# Altium integrated library Linear Technology Power Management LDO Linear Regulators.IntLib: 2339 symbols (part 19 of 131)
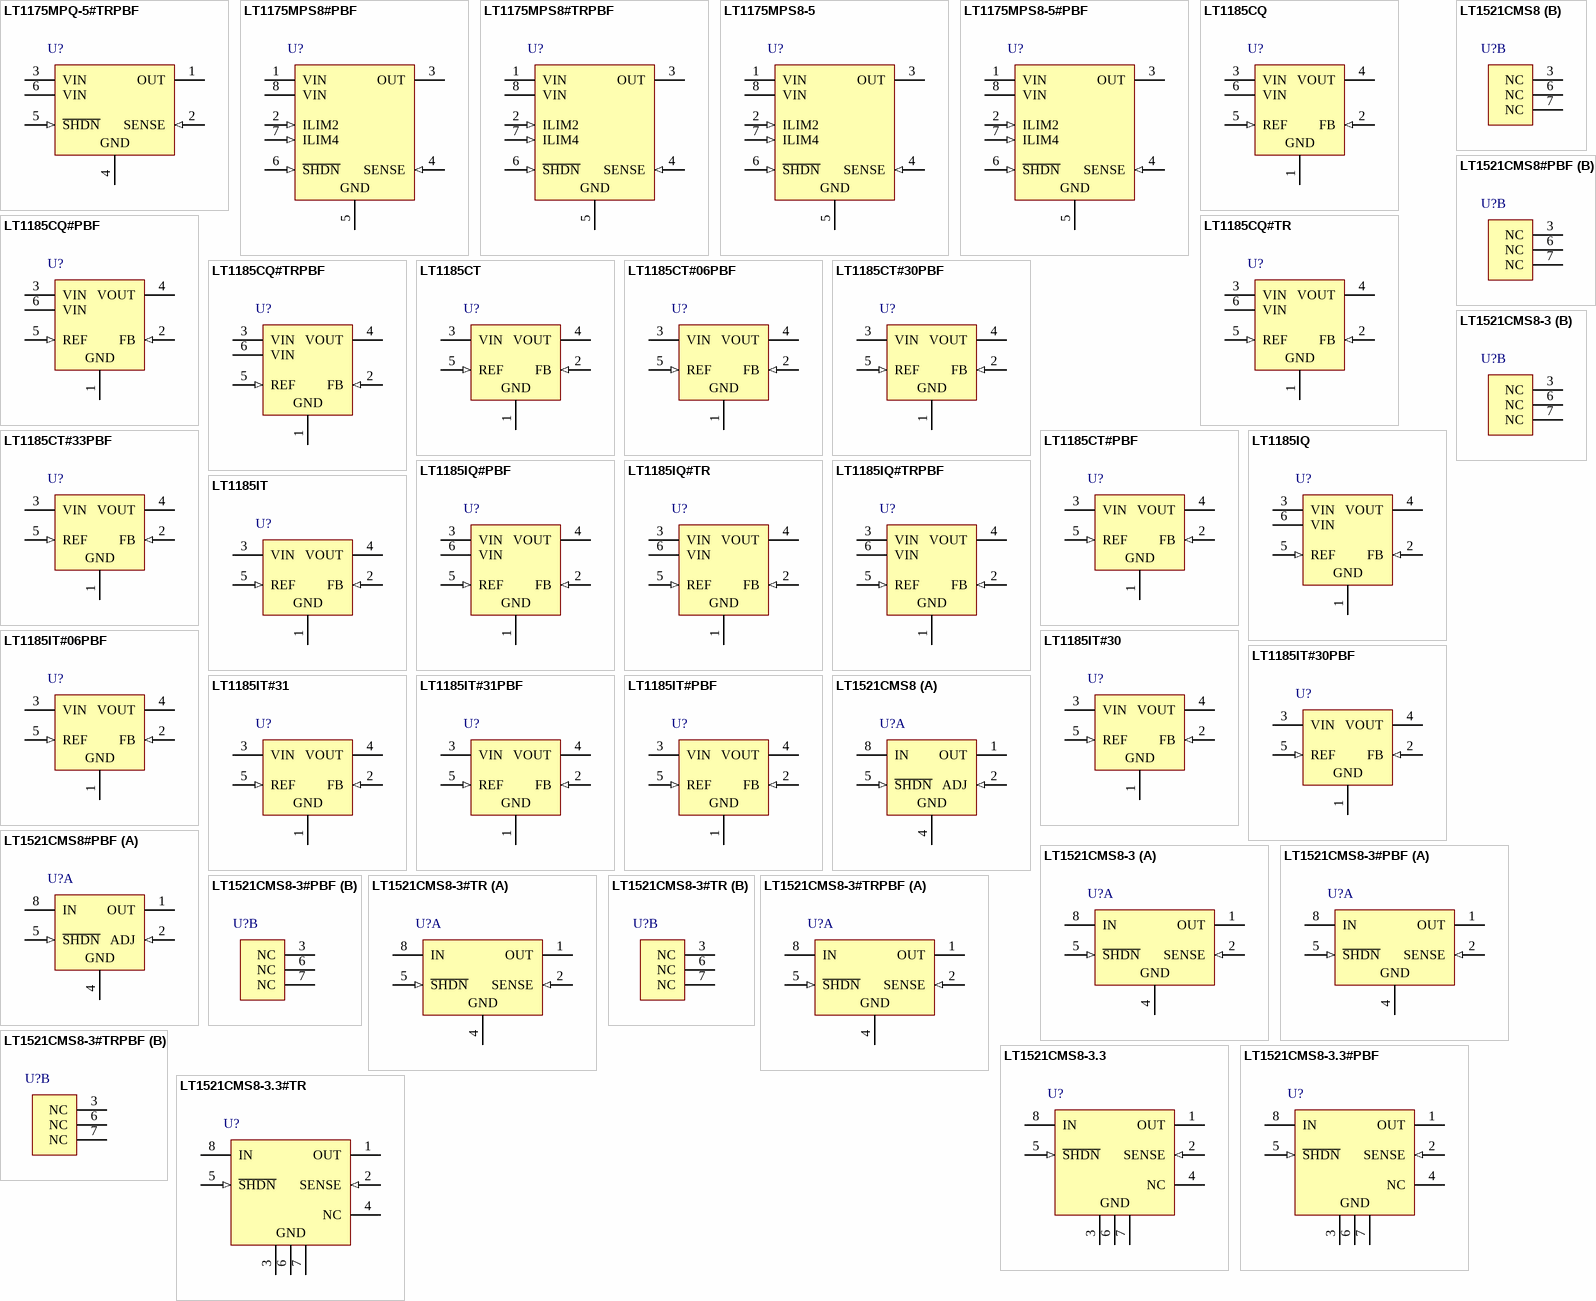
[diagram p87: symbols LT1175MPQ-5#TRPBF to LT1521CMS8-3.3#TR]

## LT1175MPS8-5#PBF
designator U?
500 mA Negative Low Dropout Micropower Regulator, -4.3 to -20 V Vin, -5 V Vout, 8-pin SOIC (S8-8), -55 to 125 degC, Pb-Free; Manufacturer: Linear Technology; PartNumber: LT1175MPS8-5#PBF; Discrete Pass Element: no; Dropout Voltage(V): 0.5; Iout(mA): 500; Isupply(mA): 0.045; Number of Outputs: 1; Output Voltage: -5 V; Shutdown Current(uA): 10; DatasheetVersion: Rev. F; PackageVersion: Rev. G, 03/2012; PackageReference: S8-8; PackageDescription: 8-Pin Plastic Small Outline (Narrow .150 Inch), Body 4.9 x 3.9 mm, Pitch 1.27 mm; Supplier 1: Digi-Key; Supplier Part Number 1: LT1175MPS8-5#PBF-ND; Supplier 2: Farnell; Supplier Part Number 2: 1847503; Supplier 3: Newark; Supplier Part Number 3: 84R5019; RoHS: TRUE; Vin Max(V): -4.3; Vin Min(V): -20; Mounting Technology: Surface Mount; ComponentLink1Description: Manufacturer URL; ComponentLink1URL: http://www.linear.com/; ComponentLink2Description: Datasheet; ComponentLink2URL: http://cds.linear.com/docs/en/datasheet/1175ff.pdf; ComponentLink3Description: Package Specification; ComponentLink3URL: http://cds.linear.com/docs/en/packaging/05081610_G_SO8.pdf
footprint LT-S8-8_N (SOIC, 8-Leads, Body 4.9x3.9mm, Pitch 1.27mm, IPC Medium Density)
footprint LT-S8-8_L (SOIC, 8-Leads, Body 4.9x3.9mm, Pitch 1.27mm, IPC High Density)
footprint LT-S8-8_M (SOIC, 8-Leads, Body 4.9x3.9mm, Pitch 1.27mm, IPC Low Density)
pins: 1 VIN (power) "Power is supplied to the device through this pin. A bypass  capacitor is required on this pin if the device is more than  six inches away from the main filter capacitor. In general, the impedance of a battery rises with (See Datasheet)", 2 ILIM2 (in) "The two current limit pins are emitter sections of the power transistor. When left open, they float several hundred millivolts  above the negative input voltage. When shorted to the  input voltage, they increase current limit (See Datasheet)", 3 OUT (power) "The OUTPUT pin  is the collector of the NPN power transistor. It can be forced to the input voltage, to ground or up to 2V positive with respect to ground without damage or latchup (see Output  Voltage Reversal in (See Datasheet)", 4 SENSE (in) "The SENSE pin is used in the adjustable version to allow custom selection of output voltage, with an external divider set to generate 3.8V at the SENSE pin. Input bias current is typically 75nA  flowing out of the pin. (See Datasheet)", 5 GND (power) "The GND pin has a quiescent current of 45uA at zero load current, increasing by approximately 10uA per mA of output current. At 500mA output current, GND pin current is about 5mA. Current ?ows into the GND pin.", 6 ~{SHDN} (in) "The S\H\D\N\ pin is  specially configured to allow it to be driven from either positive voltage logic or with negative only logic. Forcing the S\H\D\N\ pin 2V either above or below the GND pin will turn the regulator on. This (See Datasheet)", 7 ILIM4 (in) "The two current limit pins are emitter sections of the power transistor. When left open, they float several hundred millivolts  above the negative input voltage. When shorted to the  input voltage, they increase current limit (See Datasheet)", 8 VIN (power) "Power is supplied to the device through this pin. A bypass  capacitor is required on this pin if the device is more than  six inches away from the main filter capacitor. In general, the impedance of a battery rises with (See Datasheet)"

## LT1185CQ
designator U?
Low Dropout Regulator, -4.2 to -35 V Vin, Adjustable Vout, 5-pin DPAK (Q-5), 0 to 70 degC; Manufacturer: Linear Technology; PartNumber: LT1185CQ; Discrete Pass Element: no; Dropout Voltage(V): 0.67; Iout(mA): 3000; Isupply(mA): 2.5; Number of Outputs: 1; Output Voltage: -Adj; Vout Max(V): -2.4; Vout Min(V): -34; DatasheetVersion: Rev. F; PackageVersion: Rev. F, 09/2011; PackageReference: Q-5; PackageDescription: 5-Pin Plastic DD Pak, Body 10.2235 x 8.89 mm, Pitch 1.702 mm; Supplier 1: Digi-Key; Supplier Part Number 1: LT1185CQ-ND; Supplier 2: Newark; Supplier Part Number 2: 57M2579; RoHS: FALSE; Shutdown Current(uA): 1; Vin Max(V): -4.2; Vin Min(V): -35; Mounting Technology: Surface Mount; ComponentLink1Description: Manufacturer URL; ComponentLink1URL: http://www.linear.com/; ComponentLink2Description: Datasheet; ComponentLink2URL: http://cds.linear.com/docs/en/datasheet/1185ff.pdf; ComponentLink3Description: Package Specification; ComponentLink3URL: http://cds.linear.com/docs/en/packaging/Q%20DD5%2005-08-1461%20Rev%20F.pdf
footprint LT-Q-5_N (DPAK, 5-Leads, Body 10.22x8.89mm, Pitch 1.702mm, IPC Medium Density)
footprint LT-Q-5_L (DPAK, 5-Leads, Body 10.22x8.89mm, Pitch 1.702mm, IPC High Density)
footprint LT-Q-5_M (DPAK, 5-Leads, Body 10.22x8.89mm, Pitch 1.702mm, IPC Low Density)
pins: 1 GND (power), 2 FB (in), 3 VIN (power), 4 VOUT (power), 5 REF (in), 6 VIN (power)

## LT1185CQ#PBF
designator U?
Low Dropout Regulator, -4.2 to -35 V Vin, Adjustable Vout, 5-pin DPAK (Q-5), 0 to 70 degC, Pb-Free; Manufacturer: Linear Technology; PartNumber: LT1185CQ#PBF; Discrete Pass Element: no; Dropout Voltage(V): 0.67; Iout(mA): 3000; Isupply(mA): 2.5; Number of Outputs: 1; Output Voltage: -Adj; Vout Max(V): -2.4; Vout Min(V): -34; DatasheetVersion: Rev. F; PackageVersion: Rev. F, 09/2011; PackageReference: Q-5; PackageDescription: 5-Pin Plastic DD Pak, Body 10.2235 x 8.89 mm, Pitch 1.702 mm; Supplier 1: Digi-Key; Supplier Part Number 1: LT1185CQ#PBF-ND; Supplier 2: Farnell; Supplier Part Number 2: 2102589; Supplier 3: Farnell; Supplier Part Number 3: 1499450; Supplier 4: Newark; Supplier Part Number 4: 57M2580; RoHS: TRUE; Shutdown Current(uA): 1; Vin Max(V): -4.2; Vin Min(V): -35; Mounting Technology: Surface Mount; ComponentLink1Description: Manufacturer URL; ComponentLink1URL: http://www.linear.com/; ComponentLink2Description: Datasheet; ComponentLink2URL: http://cds.linear.com/docs/en/datasheet/1185ff.pdf; ComponentLink3Description: Package Specification; ComponentLink3URL: http://cds.linear.com/docs/en/packaging/Q%20DD5%2005-08-1461%20Rev%20F.pdf
footprint LT-Q-5_N (DPAK, 5-Leads, Body 10.22x8.89mm, Pitch 1.702mm, IPC Medium Density)
footprint LT-Q-5_L (DPAK, 5-Leads, Body 10.22x8.89mm, Pitch 1.702mm, IPC High Density)
footprint LT-Q-5_M (DPAK, 5-Leads, Body 10.22x8.89mm, Pitch 1.702mm, IPC Low Density)
pins: 1 GND (power), 2 FB (in), 3 VIN (power), 4 VOUT (power), 5 REF (in), 6 VIN (power)

## LT1185CQ#TR
designator U?
Low Dropout Regulator, -4.2 to -35 V Vin, Adjustable Vout, 5-pin DPAK (Q-5), 0 to 70 degC, Tape and Reel; Manufacturer: Linear Technology; PartNumber: LT1185CQ#TR; Discrete Pass Element: no; Dropout Voltage(V): 0.67; Iout(mA): 3000; Isupply(mA): 2.5; Number of Outputs: 1; Output Voltage: -Adj; Vout Max(V): -2.4; Vout Min(V): -34; DatasheetVersion: Rev. F; PackageVersion: Rev. F, 09/2011; PackageReference: Q-5; PackageDescription: 5-Pin Plastic DD Pak, Body 10.2235 x 8.89 mm, Pitch 1.702 mm; Supplier 1: Digi-Key; Supplier Part Number 1: LT1185CQ#TR-ND; Supplier 2: Newark; Supplier Part Number 2: 57M2581; Packing: Tape and Reel; RoHS: FALSE; Shutdown Current(uA): 1; Vin Max(V): -4.2; Vin Min(V): -35; Mounting Technology: Surface Mount; ComponentLink1Description: Manufacturer URL; ComponentLink1URL: http://www.linear.com/; ComponentLink2Description: Datasheet; ComponentLink2URL: http://cds.linear.com/docs/en/datasheet/1185ff.pdf; ComponentLink3Description: Package Specification; ComponentLink3URL: http://cds.linear.com/docs/en/packaging/Q%20DD5%2005-08-1461%20Rev%20F.pdf
footprint LT-Q-5_N (DPAK, 5-Leads, Body 10.22x8.89mm, Pitch 1.702mm, IPC Medium Density)
footprint LT-Q-5_L (DPAK, 5-Leads, Body 10.22x8.89mm, Pitch 1.702mm, IPC High Density)
footprint LT-Q-5_M (DPAK, 5-Leads, Body 10.22x8.89mm, Pitch 1.702mm, IPC Low Density)
pins: 1 GND (power), 2 FB (in), 3 VIN (power), 4 VOUT (power), 5 REF (in), 6 VIN (power)

## LT1185CQ#TRPBF
designator U?
Low Dropout Regulator, -4.2 to -35 V Vin, Adjustable Vout, 5-pin DPAK (Q-5), 0 to 70 degC, Pb-Free, Tape and Reel; Manufacturer: Linear Technology; PartNumber: LT1185CQ#TRPBF; Discrete Pass Element: no; Dropout Voltage(V): 0.67; Iout(mA): 3000; Isupply(mA): 2.5; Number of Outputs: 1; Output Voltage: -Adj; Vout Max(V): -2.4; Vout Min(V): -34; DatasheetVersion: Rev. F; PackageVersion: Rev. F, 09/2011; PackageReference: Q-5; PackageDescription: 5-Pin Plastic DD Pak, Body 10.2235 x 8.89 mm, Pitch 1.702 mm; Supplier 1: Digi-Key; Supplier Part Number 1: LT1185CQ#TRPBF-ND; Supplier 2: Newark; Supplier Part Number 2: 57M2582; Packing: Tape and Reel; RoHS: TRUE; Shutdown Current(uA): 1; Vin Max(V): -4.2; Vin Min(V): -35; Mounting Technology: Surface Mount; ComponentLink1Description: Manufacturer URL; ComponentLink1URL: http://www.linear.com/; ComponentLink2Description: Datasheet; ComponentLink2URL: http://cds.linear.com/docs/en/datasheet/1185ff.pdf; ComponentLink3Description: Package Specification; ComponentLink3URL: http://cds.linear.com/docs/en/packaging/Q%20DD5%2005-08-1461%20Rev%20F.pdf
footprint LT-Q-5_N (DPAK, 5-Leads, Body 10.22x8.89mm, Pitch 1.702mm, IPC Medium Density)
footprint LT-Q-5_L (DPAK, 5-Leads, Body 10.22x8.89mm, Pitch 1.702mm, IPC High Density)
footprint LT-Q-5_M (DPAK, 5-Leads, Body 10.22x8.89mm, Pitch 1.702mm, IPC Low Density)
pins: 1 GND (power), 2 FB (in), 3 VIN (power), 4 VOUT (power), 5 REF (in), 6 VIN (power)

## LT1185CT
designator U?
Low Dropout Regulator, -4.2 to -35 V Vin, Adjustable Vout, 5-pin FM (T-5), 0 to 70 degC; Manufacturer: Linear Technology; PartNumber: LT1185CT; Discrete Pass Element: no; Dropout Voltage(V): 0.67; Iout(mA): 3000; Isupply(mA): 2.5; Number of Outputs: 1; Output Voltage: -Adj; Vout Max(V): -2.4; Vout Min(V): -34; DatasheetVersion: Rev. F; PackageVersion: Aug-10; PackageReference: T-5; PackageDescription: 5-Pin Plastic TO-220 (Standard), Body 10.224 x 8.89 mm, Pitch 1.7 mm; Supplier 1: Digi-Key; Supplier Part Number 1: LT1185CT-ND; Supplier 2: Newark; Supplier Part Number 2: 57M2583; RoHS: FALSE; Shutdown Current(uA): 1; Vin Max(V): -4.2; Vin Min(V): -35; Mounting Technology: Through Hole; ComponentLink1Description: Manufacturer URL; ComponentLink1URL: http://www.linear.com/; ComponentLink2Description: Datasheet; ComponentLink2URL: http://cds.linear.com/docs/en/datasheet/1185ff.pdf; ComponentLink3Description: Package Specification; ComponentLink3URL: http://cds.linear.com/docs/en/packaging/TO-220_5_05-08-1421.pdf
footprint LT-T-5-S (FM, 5-Leads, Body 10.2235x4.3815mm, Pitch 1.7mm)
pins: 1 GND (power), 2 FB (in), 3 VIN (power), 4 VOUT (power), 5 REF (in)

## LT1185CT#06PBF
designator U?
Low Dropout Regulator, -4.2 to -35 V Vin, Adjustable Vout, 5-pin FM (T-5), 0 to 70 degC, Pb-Free; Manufacturer: Linear Technology; PartNumber: LT1185CT#06PBF; Discrete Pass Element: no; Dropout Voltage(V): 0.67; Iout(mA): 3000; Isupply(mA): 2.5; Number of Outputs: 1; Output Voltage: -Adj; Vout Max(V): -2.4; Vout Min(V): -34; DatasheetVersion: Rev. F; PackageVersion: Aug-10; PackageReference: T-5; PackageDescription: 5-Pin Plastic TO-220 (Standard), Body 10.224 x 8.89 mm, Pitch 1.7 mm; Supplier 1: Digi-Key; Supplier Part Number 1: LT1185CT#06PBF-ND; Supplier 2: Newark; Supplier Part Number 2: 27W9517; RoHS: TRUE; Shutdown Current(uA): 1; Vin Max(V): -4.2; Vin Min(V): -35; Mounting Technology: Through Hole; ComponentLink1Description: Manufacturer URL; ComponentLink1URL: http://www.linear.com/; ComponentLink2Description: Datasheet; ComponentLink2URL: http://cds.linear.com/docs/en/datasheet/1185ff.pdf; ComponentLink3Description: Package Specification; ComponentLink3URL: http://cds.linear.com/docs/en/packaging/TO-220_5_05-08-1421.pdf
footprint LT-T-5-S (FM, 5-Leads, Body 10.2235x4.3815mm, Pitch 1.7mm)
pins: 1 GND (power), 2 FB (in), 3 VIN (power), 4 VOUT (power), 5 REF (in)

## LT1185CT#30PBF
designator U?
Low Dropout Regulator, -4.2 to -35 V Vin, Adjustable Vout, 5-pin FM (T-5), 0 to 70 degC, Pb-Free; Manufacturer: Linear Technology; PartNumber: LT1185CT#30PBF; Discrete Pass Element: no; Dropout Voltage(V): 0.67; Iout(mA): 3000; Isupply(mA): 2.5; Number of Outputs: 1; Output Voltage: -Adj; Vout Max(V): -2.4; Vout Min(V): -34; DatasheetVersion: Rev. F; PackageVersion: Aug-10; PackageReference: T-5; PackageDescription: 5-Pin Plastic TO-220 (Standard), Body 10.224 x 8.89 mm, Pitch 1.7 mm; Supplier 1: Digi-Key; Supplier Part Number 1: LT1185CT#30PBF-ND; Supplier 2: Newark; Supplier Part Number 2: 27W9518; RoHS: TRUE; Shutdown Current(uA): 1; Vin Max(V): -4.2; Vin Min(V): -35; Mounting Technology: Through Hole; ComponentLink1Description: Manufacturer URL; ComponentLink1URL: http://www.linear.com/; ComponentLink2Description: Datasheet; ComponentLink2URL: http://cds.linear.com/docs/en/datasheet/1185ff.pdf; ComponentLink3Description: Package Specification; ComponentLink3URL: http://cds.linear.com/docs/en/packaging/TO-220_5_05-08-1421.pdf
footprint LT-T-5-S (FM, 5-Leads, Body 10.2235x4.3815mm, Pitch 1.7mm)
pins: 1 GND (power), 2 FB (in), 3 VIN (power), 4 VOUT (power), 5 REF (in)

## LT1185CT#33PBF
designator U?
Low Dropout Regulator, -4.2 to -35 V Vin, Adjustable Vout, 5-pin FM (T-5), 0 to 70 degC, Pb-Free; Manufacturer: Linear Technology; PartNumber: LT1185CT#33PBF; Discrete Pass Element: no; Dropout Voltage(V): 0.67; Iout(mA): 3000; Isupply(mA): 2.5; Number of Outputs: 1; Output Voltage: -Adj; Vout Max(V): -2.4; Vout Min(V): -34; DatasheetVersion: Rev. F; PackageVersion: Aug-10; PackageReference: T-5; PackageDescription: 5-Pin Plastic TO-220 (Standard), Body 10.224 x 8.89 mm, Pitch 1.7 mm; Supplier 1: Digi-Key; Supplier Part Number 1: LT1185CT#33PBF-ND; Supplier 2: Newark; Supplier Part Number 2: 87T1010; RoHS: TRUE; Shutdown Current(uA): 1; Vin Max(V): -4.2; Vin Min(V): -35; Mounting Technology: Through Hole; ComponentLink1Description: Manufacturer URL; ComponentLink1URL: http://www.linear.com/; ComponentLink2Description: Datasheet; ComponentLink2URL: http://cds.linear.com/docs/en/datasheet/1185ff.pdf; ComponentLink3Description: Package Specification; ComponentLink3URL: http://cds.linear.com/docs/en/packaging/TO-220_5_05-08-1421.pdf
footprint LT-T-5-S (FM, 5-Leads, Body 10.2235x4.3815mm, Pitch 1.7mm)
pins: 1 GND (power), 2 FB (in), 3 VIN (power), 4 VOUT (power), 5 REF (in)

## LT1185CT#PBF
designator U?
Low Dropout Regulator, -4.2 to -35 V Vin, Adjustable Vout, 5-pin FM (T-5), 0 to 70 degC, Pb-Free; Manufacturer: Linear Technology; PartNumber: LT1185CT#PBF; Discrete Pass Element: no; Dropout Voltage(V): 0.67; Iout(mA): 3000; Isupply(mA): 2.5; Number of Outputs: 1; Output Voltage: -Adj; Vout Max(V): -2.4; Vout Min(V): -34; DatasheetVersion: Rev. F; PackageVersion: Aug-10; PackageReference: T-5; PackageDescription: 5-Pin Plastic TO-220 (Standard), Body 10.224 x 8.89 mm, Pitch 1.7 mm; Supplier 1: Digi-Key; Supplier Part Number 1: LT1185CT#PBF-ND; Supplier 2: Farnell; Supplier Part Number 2: 9560289; Supplier 3: Newark; Supplier Part Number 3: 57M2584; RoHS: TRUE; Shutdown Current(uA): 1; Vin Max(V): -4.2; Vin Min(V): -35; Mounting Technology: Through Hole; ComponentLink1Description: Manufacturer URL; ComponentLink1URL: http://www.linear.com/; ComponentLink2Description: Datasheet; ComponentLink2URL: http://cds.linear.com/docs/en/datasheet/1185ff.pdf; ComponentLink3Description: Package Specification; ComponentLink3URL: http://cds.linear.com/docs/en/packaging/TO-220_5_05-08-1421.pdf
footprint LT-T-5-S (FM, 5-Leads, Body 10.2235x4.3815mm, Pitch 1.7mm)
pins: 1 GND (power), 2 FB (in), 3 VIN (power), 4 VOUT (power), 5 REF (in)

## LT1185IQ
designator U?
Low Dropout Regulator, -4.2 to -35 V Vin, Adjustable Vout, 5-pin DPAK (Q-5), -40 to 85 degC; Manufacturer: Linear Technology; PartNumber: LT1185IQ; Discrete Pass Element: no; Dropout Voltage(V): 0.67; Iout(mA): 3000; Isupply(mA): 2.5; Number of Outputs: 1; Output Voltage: -Adj; Vout Max(V): -2.4; Vout Min(V): -34; DatasheetVersion: Rev. F; PackageVersion: Rev. F, 09/2011; PackageReference: Q-5; PackageDescription: 5-Pin Plastic DD Pak, Body 10.2235 x 8.89 mm, Pitch 1.702 mm; Supplier 1: Newark; Supplier Part Number 1: 57M2585; RoHS: FALSE; Shutdown Current(uA): 1; Vin Max(V): -4.2; Vin Min(V): -35; Mounting Technology: Surface Mount; ComponentLink1Description: Manufacturer URL; ComponentLink1URL: http://www.linear.com/; ComponentLink2Description: Datasheet; ComponentLink2URL: http://cds.linear.com/docs/en/datasheet/1185ff.pdf; ComponentLink3Description: Package Specification; ComponentLink3URL: http://cds.linear.com/docs/en/packaging/Q%20DD5%2005-08-1461%20Rev%20F.pdf
footprint LT-Q-5_N (DPAK, 5-Leads, Body 10.22x8.89mm, Pitch 1.702mm, IPC Medium Density)
footprint LT-Q-5_L (DPAK, 5-Leads, Body 10.22x8.89mm, Pitch 1.702mm, IPC High Density)
footprint LT-Q-5_M (DPAK, 5-Leads, Body 10.22x8.89mm, Pitch 1.702mm, IPC Low Density)
pins: 1 GND (power), 2 FB (in), 3 VIN (power), 4 VOUT (power), 5 REF (in), 6 VIN (power)

## LT1185IQ#PBF
designator U?
Low Dropout Regulator, -4.2 to -35 V Vin, Adjustable Vout, 5-pin DPAK (Q-5), -40 to 85 degC, Pb-Free; Manufacturer: Linear Technology; PartNumber: LT1185IQ#PBF; Discrete Pass Element: no; Dropout Voltage(V): 0.67; Iout(mA): 3000; Isupply(mA): 2.5; Number of Outputs: 1; Output Voltage: -Adj; Vout Max(V): -2.4; Vout Min(V): -34; DatasheetVersion: Rev. F; PackageVersion: Rev. F, 09/2011; PackageReference: Q-5; PackageDescription: 5-Pin Plastic DD Pak, Body 10.2235 x 8.89 mm, Pitch 1.702 mm; Supplier 1: Digi-Key; Supplier Part Number 1: LT1185IQ#PBF-ND; Supplier 2: Farnell; Supplier Part Number 2: 2238174; Supplier 3: Newark; Supplier Part Number 3: 51P4620; RoHS: TRUE; Shutdown Current(uA): 1; Vin Max(V): -4.2; Vin Min(V): -35; Mounting Technology: Surface Mount; ComponentLink1Description: Manufacturer URL; ComponentLink1URL: http://www.linear.com/; ComponentLink2Description: Datasheet; ComponentLink2URL: http://cds.linear.com/docs/en/datasheet/1185ff.pdf; ComponentLink3Description: Package Specification; ComponentLink3URL: http://cds.linear.com/docs/en/packaging/Q%20DD5%2005-08-1461%20Rev%20F.pdf
footprint LT-Q-5_N (DPAK, 5-Leads, Body 10.22x8.89mm, Pitch 1.702mm, IPC Medium Density)
footprint LT-Q-5_L (DPAK, 5-Leads, Body 10.22x8.89mm, Pitch 1.702mm, IPC High Density)
footprint LT-Q-5_M (DPAK, 5-Leads, Body 10.22x8.89mm, Pitch 1.702mm, IPC Low Density)
pins: 1 GND (power), 2 FB (in), 3 VIN (power), 4 VOUT (power), 5 REF (in), 6 VIN (power)

## LT1185IQ#TR
designator U?
Low Dropout Regulator, -4.2 to -35 V Vin, Adjustable Vout, 5-pin DPAK (Q-5), -40 to 85 degC, Tape and Reel; Manufacturer: Linear Technology; PartNumber: LT1185IQ#TR; Discrete Pass Element: no; Dropout Voltage(V): 0.67; Iout(mA): 3000; Isupply(mA): 2.5; Number of Outputs: 1; Output Voltage: -Adj; Vout Max(V): -2.4; Vout Min(V): -34; DatasheetVersion: Rev. F; PackageVersion: Rev. F, 09/2011; PackageReference: Q-5; PackageDescription: 5-Pin Plastic DD Pak, Body 10.2235 x 8.89 mm, Pitch 1.702 mm; Packing: Tape and Reel; RoHS: FALSE; Shutdown Current(uA): 1; Vin Max(V): -4.2; Vin Min(V): -35; Mounting Technology: Surface Mount; ComponentLink1Description: Manufacturer URL; ComponentLink1URL: http://www.linear.com/; ComponentLink2Description: Datasheet; ComponentLink2URL: http://cds.linear.com/docs/en/datasheet/1185ff.pdf; ComponentLink3Description: Package Specification; ComponentLink3URL: http://cds.linear.com/docs/en/packaging/Q%20DD5%2005-08-1461%20Rev%20F.pdf
footprint LT-Q-5_N (DPAK, 5-Leads, Body 10.22x8.89mm, Pitch 1.702mm, IPC Medium Density)
footprint LT-Q-5_L (DPAK, 5-Leads, Body 10.22x8.89mm, Pitch 1.702mm, IPC High Density)
footprint LT-Q-5_M (DPAK, 5-Leads, Body 10.22x8.89mm, Pitch 1.702mm, IPC Low Density)
pins: 1 GND (power), 2 FB (in), 3 VIN (power), 4 VOUT (power), 5 REF (in), 6 VIN (power)

## LT1185IQ#TRPBF
designator U?
Low Dropout Regulator, -4.2 to -35 V Vin, Adjustable Vout, 5-pin DPAK (Q-5), -40 to 85 degC, Pb-Free, Tape and Reel; Manufacturer: Linear Technology; PartNumber: LT1185IQ#TRPBF; Discrete Pass Element: no; Dropout Voltage(V): 0.67; Iout(mA): 3000; Isupply(mA): 2.5; Number of Outputs: 1; Output Voltage: -Adj; Vout Max(V): -2.4; Vout Min(V): -34; DatasheetVersion: Rev. F; PackageVersion: Rev. F, 09/2011; PackageReference: Q-5; PackageDescription: 5-Pin Plastic DD Pak, Body 10.2235 x 8.89 mm, Pitch 1.702 mm; Supplier 1: Digi-Key; Supplier Part Number 1: LT1185IQ#TRPBF-ND; Supplier 2: Newark; Supplier Part Number 2: 51P4621; Packing: Tape and Reel; RoHS: TRUE; Shutdown Current(uA): 1; Vin Max(V): -4.2; Vin Min(V): -35; Mounting Technology: Surface Mount; ComponentLink1Description: Manufacturer URL; ComponentLink1URL: http://www.linear.com/; ComponentLink2Description: Datasheet; ComponentLink2URL: http://cds.linear.com/docs/en/datasheet/1185ff.pdf; ComponentLink3Description: Package Specification; ComponentLink3URL: http://cds.linear.com/docs/en/packaging/Q%20DD5%2005-08-1461%20Rev%20F.pdf
footprint LT-Q-5_N (DPAK, 5-Leads, Body 10.22x8.89mm, Pitch 1.702mm, IPC Medium Density)
footprint LT-Q-5_L (DPAK, 5-Leads, Body 10.22x8.89mm, Pitch 1.702mm, IPC High Density)
footprint LT-Q-5_M (DPAK, 5-Leads, Body 10.22x8.89mm, Pitch 1.702mm, IPC Low Density)
pins: 1 GND (power), 2 FB (in), 3 VIN (power), 4 VOUT (power), 5 REF (in), 6 VIN (power)

## LT1185IT
designator U?
Low Dropout Regulator, -4.2 to -35 V Vin, Adjustable Vout, 5-pin FM (T-5), -40 to 85 degC; Manufacturer: Linear Technology; PartNumber: LT1185IT; Discrete Pass Element: no; Dropout Voltage(V): 0.67; Iout(mA): 3000; Isupply(mA): 2.5; Number of Outputs: 1; Output Voltage: -Adj; Vout Max(V): -2.4; Vout Min(V): -34; DatasheetVersion: Rev. F; PackageVersion: Aug-10; PackageReference: T-5; PackageDescription: 5-Pin Plastic TO-220 (Standard), Body 10.224 x 8.89 mm, Pitch 1.7 mm; Supplier 1: Digi-Key; Supplier Part Number 1: LT1185IT-ND; Supplier 2: Newark; Supplier Part Number 2: 57M2587; RoHS: FALSE; Shutdown Current(uA): 1; Vin Max(V): -4.2; Vin Min(V): -35; Mounting Technology: Through Hole; ComponentLink1Description: Manufacturer URL; ComponentLink1URL: http://www.linear.com/; ComponentLink2Description: Datasheet; ComponentLink2URL: http://cds.linear.com/docs/en/datasheet/1185ff.pdf; ComponentLink3Description: Package Specification; ComponentLink3URL: http://cds.linear.com/docs/en/packaging/TO-220_5_05-08-1421.pdf
footprint LT-T-5-S (FM, 5-Leads, Body 10.2235x4.3815mm, Pitch 1.7mm)
pins: 1 GND (power), 2 FB (in), 3 VIN (power), 4 VOUT (power), 5 REF (in)

## LT1185IT#06PBF
designator U?
Low Dropout Regulator, -4.2 to -35 V Vin, Adjustable Vout, 5-pin FM (T-5), -40 to 85 degC, Pb-Free; Manufacturer: Linear Technology; PartNumber: LT1185IT#06PBF; Discrete Pass Element: no; Dropout Voltage(V): 0.67; Iout(mA): 3000; Isupply(mA): 2.5; Number of Outputs: 1; Output Voltage: -Adj; Vout Max(V): -2.4; Vout Min(V): -34; DatasheetVersion: Rev. F; PackageVersion: Aug-10; PackageReference: T-5; PackageDescription: 5-Pin Plastic TO-220 (Standard), Body 10.224 x 8.89 mm, Pitch 1.7 mm; Supplier 1: Digi-Key; Supplier Part Number 1: LT1185IT#06PBF-ND; Supplier 2: Farnell; Supplier Part Number 2: 2238175; Supplier 3: Newark; Supplier Part Number 3: 51P4622; RoHS: TRUE; Shutdown Current(uA): 1; Vin Max(V): -4.2; Vin Min(V): -35; Mounting Technology: Through Hole; ComponentLink1Description: Manufacturer URL; ComponentLink1URL: http://www.linear.com/; ComponentLink2Description: Datasheet; ComponentLink2URL: http://cds.linear.com/docs/en/datasheet/1185ff.pdf; ComponentLink3Description: Package Specification; ComponentLink3URL: http://cds.linear.com/docs/en/packaging/TO-220_5_05-08-1421.pdf
footprint LT-T-5-S (FM, 5-Leads, Body 10.2235x4.3815mm, Pitch 1.7mm)
pins: 1 GND (power), 2 FB (in), 3 VIN (power), 4 VOUT (power), 5 REF (in)

## LT1185IT#30
designator U?
Low Dropout Regulator, -4.2 to -35 V Vin, Adjustable Vout, 5-pin FM (T-5), -40 to 85 degC; Manufacturer: Linear Technology; PartNumber: LT1185IT#30; Discrete Pass Element: no; Dropout Voltage(V): 0.67; Iout(mA): 3000; Isupply(mA): 2.5; Number of Outputs: 1; Output Voltage: -Adj; Vout Max(V): -2.4; Vout Min(V): -34; DatasheetVersion: Rev. F; PackageVersion: Aug-10; PackageReference: T-5; PackageDescription: 5-Pin Plastic TO-220 (Standard), Body 10.224 x 8.89 mm, Pitch 1.7 mm; RoHS: FALSE; Shutdown Current(uA): 1; Vin Max(V): -4.2; Vin Min(V): -35; Mounting Technology: Through Hole; ComponentLink1Description: Manufacturer URL; ComponentLink1URL: http://www.linear.com/; ComponentLink2Description: Datasheet; ComponentLink2URL: http://cds.linear.com/docs/en/datasheet/1185ff.pdf; ComponentLink3Description: Package Specification; ComponentLink3URL: http://cds.linear.com/docs/en/packaging/TO-220_5_05-08-1421.pdf
footprint LT-T-5-S (FM, 5-Leads, Body 10.2235x4.3815mm, Pitch 1.7mm)
pins: 1 GND (power), 2 FB (in), 3 VIN (power), 4 VOUT (power), 5 REF (in)

## LT1185IT#30PBF
designator U?
Low Dropout Regulator, -4.2 to -35 V Vin, Adjustable Vout, 5-pin FM (T-5), -40 to 85 degC, Pb-Free; Manufacturer: Linear Technology; PartNumber: LT1185IT#30PBF; Discrete Pass Element: no; Dropout Voltage(V): 0.67; Iout(mA): 3000; Isupply(mA): 2.5; Number of Outputs: 1; Output Voltage: -Adj; Vout Max(V): -2.4; Vout Min(V): -34; DatasheetVersion: Rev. F; PackageVersion: Aug-10; PackageReference: T-5; PackageDescription: 5-Pin Plastic TO-220 (Standard), Body 10.224 x 8.89 mm, Pitch 1.7 mm; Supplier 1: Digi-Key; Supplier Part Number 1: LT1185IT#30PBF-ND; RoHS: TRUE; Shutdown Current(uA): 1; Vin Max(V): -4.2; Vin Min(V): -35; Mounting Technology: Through Hole; ComponentLink1Description: Manufacturer URL; ComponentLink1URL: http://www.linear.com/; ComponentLink2Description: Datasheet; ComponentLink2URL: http://cds.linear.com/docs/en/datasheet/1185ff.pdf; ComponentLink3Description: Package Specification; ComponentLink3URL: http://cds.linear.com/docs/en/packaging/TO-220_5_05-08-1421.pdf
footprint LT-T-5-S (FM, 5-Leads, Body 10.2235x4.3815mm, Pitch 1.7mm)
pins: 1 GND (power), 2 FB (in), 3 VIN (power), 4 VOUT (power), 5 REF (in)

## LT1185IT#31
designator U?
Low Dropout Regulator, -4.2 to -35 V Vin, Adjustable Vout, 5-pin FM (T-5), -40 to 85 degC; Manufacturer: Linear Technology; PartNumber: LT1185IT#31; Discrete Pass Element: no; Dropout Voltage(V): 0.67; Iout(mA): 3000; Isupply(mA): 2.5; Number of Outputs: 1; Output Voltage: -Adj; Vout Max(V): -2.4; Vout Min(V): -34; DatasheetVersion: Rev. F; PackageVersion: Aug-10; PackageReference: T-5; PackageDescription: 5-Pin Plastic TO-220 (Standard), Body 10.224 x 8.89 mm, Pitch 1.7 mm; RoHS: FALSE; Shutdown Current(uA): 1; Vin Max(V): -4.2; Vin Min(V): -35; Mounting Technology: Through Hole; ComponentLink1Description: Manufacturer URL; ComponentLink1URL: http://www.linear.com/; ComponentLink2Description: Datasheet; ComponentLink2URL: http://cds.linear.com/docs/en/datasheet/1185ff.pdf; ComponentLink3Description: Package Specification; ComponentLink3URL: http://cds.linear.com/docs/en/packaging/TO-220_5_05-08-1421.pdf
footprint LT-T-5-S (FM, 5-Leads, Body 10.2235x4.3815mm, Pitch 1.7mm)
pins: 1 GND (power), 2 FB (in), 3 VIN (power), 4 VOUT (power), 5 REF (in)

## LT1185IT#31PBF
designator U?
Low Dropout Regulator, -4.2 to -35 V Vin, Adjustable Vout, 5-pin FM (T-5), -40 to 85 degC, Pb-Free; Manufacturer: Linear Technology; PartNumber: LT1185IT#31PBF; Discrete Pass Element: no; Dropout Voltage(V): 0.67; Iout(mA): 3000; Isupply(mA): 2.5; Number of Outputs: 1; Output Voltage: -Adj; Vout Max(V): -2.4; Vout Min(V): -34; DatasheetVersion: Rev. F; PackageVersion: Aug-10; PackageReference: T-5; PackageDescription: 5-Pin Plastic TO-220 (Standard), Body 10.224 x 8.89 mm, Pitch 1.7 mm; Supplier 1: Digi-Key; Supplier Part Number 1: LT1185IT#31PBF-ND; RoHS: TRUE; Shutdown Current(uA): 1; Vin Max(V): -4.2; Vin Min(V): -35; Mounting Technology: Through Hole; ComponentLink1Description: Manufacturer URL; ComponentLink1URL: http://www.linear.com/; ComponentLink2Description: Datasheet; ComponentLink2URL: http://cds.linear.com/docs/en/datasheet/1185ff.pdf; ComponentLink3Description: Package Specification; ComponentLink3URL: http://cds.linear.com/docs/en/packaging/TO-220_5_05-08-1421.pdf
footprint LT-T-5-S (FM, 5-Leads, Body 10.2235x4.3815mm, Pitch 1.7mm)
pins: 1 GND (power), 2 FB (in), 3 VIN (power), 4 VOUT (power), 5 REF (in)

## LT1185IT#PBF
designator U?
Low Dropout Regulator, -4.2 to -35 V Vin, Adjustable Vout, 5-pin FM (T-5), -40 to 85 degC, Pb-Free; Manufacturer: Linear Technology; PartNumber: LT1185IT#PBF; Discrete Pass Element: no; Dropout Voltage(V): 0.67; Iout(mA): 3000; Isupply(mA): 2.5; Number of Outputs: 1; Output Voltage: -Adj; Vout Max(V): -2.4; Vout Min(V): -34; DatasheetVersion: Rev. F; PackageVersion: Aug-10; PackageReference: T-5; PackageDescription: 5-Pin Plastic TO-220 (Standard), Body 10.224 x 8.89 mm, Pitch 1.7 mm; Supplier 1: Digi-Key; Supplier Part Number 1: LT1185IT#PBF-ND; Supplier 2: Farnell; Supplier Part Number 2: 2238176; Supplier 3: Newark; Supplier Part Number 3: 57M2588; RoHS: TRUE; Shutdown Current(uA): 1; Vin Max(V): -4.2; Vin Min(V): -35; Mounting Technology: Through Hole; ComponentLink1Description: Manufacturer URL; ComponentLink1URL: http://www.linear.com/; ComponentLink2Description: Datasheet; ComponentLink2URL: http://cds.linear.com/docs/en/datasheet/1185ff.pdf; ComponentLink3Description: Package Specification; ComponentLink3URL: http://cds.linear.com/docs/en/packaging/TO-220_5_05-08-1421.pdf
footprint LT-T-5-S (FM, 5-Leads, Body 10.2235x4.3815mm, Pitch 1.7mm)
pins: 1 GND (power), 2 FB (in), 3 VIN (power), 4 VOUT (power), 5 REF (in)

## LT1521CMS8
designator U?
300 mA Low Dropout Regulator with Micropower Quiescent Current and Shutdown, 4.3 to 20 V Vin, Adjustable Vout, 8-pin SOP (MS8-8), 0 to 125 degC; Manufacturer: Linear Technology; PartNumber: LT1521CMS8; Discrete Pass Element: no; Dropout Voltage(V): 0.5; Iout(mA): 300; Isupply(mA): 0.012; Number of Outputs: 1; Output Voltage: Adj; Shutdown Current(uA): 6; Vin Max(V): 20; Vin Min(V): 4.3; Vout Min(V): 3.8; DatasheetVersion: Rev. B; PackageVersion: Rev. G, 03/2012; PackageReference: MS8-8; PackageDescription: 8-Pin Plastic MSOP, Body 3 x 3 mm, Pitch 0.65 mm; Supplier 1: Digi-Key; Supplier Part Number 1: LT1521CMS8-ND; RoHS: FALSE; Vout Max(V): 20; Mounting Technology: Surface Mount; ComponentLink1Description: Manufacturer URL; ComponentLink1URL: http://www.linear.com/; ComponentLink2Description: Datasheet; ComponentLink2URL: http://cds.linear.com/docs/en/datasheet/1521335fb.pdf; ComponentLink3Description: Package Specification; ComponentLink3URL: http://cds.linear.com/docs/en/packaging/05081660_G_MS8.pdf
footprint LT-MS8-8_N (SOP, 8-Leads, Body 3x3mm, Pitch 0.65mm, IPC Medium Density)
footprint LT-MS8-8_L (SOP, 8-Leads, Body 3x3mm, Pitch 0.65mm, IPC High Density)
footprint LT-MS8-8_M (SOP, 8-Leads, Body 3x3mm, Pitch 0.65mm, IPC Low Density)
part A pins: 1 OUT (power) "The output pin supplies power to the load. A minimum output capacitor of 1.5uF is required to prevent oscillations, but larger values of output capacitor will be necessary to deal with larger load transients. See the (See Datasheet)", 2 ADJ (in) "For adjustable LT1521, the adjust pin is the input to the error amplifier. This pin is internally clamped to 6V and -0.6V (one VBE). It has a bias current of 50nA which flows into the pin. See Adjust Pin Bias Current vs (See Datasheet)", 4 GND (power), 5 ~{SHDN} (in) "The shutdown pin is used to put the device into shutdown. In shutdown the output of the device is turned off. This pin is active low. The device will be shut down if the shutdown pin is pulled low. The shutdown pin current (See Datasheet)", 8 IN (power) "Power is supplied to the device through the input pin. The input pin should be bypassed to ground if the device is more than six inches away from the main input filter capacitor. In general, the output impedance of battery (See Datasheet)"
part B pins: 3 NC, 6 NC, 7 NC

## LT1521CMS8#PBF
designator U?
300 mA Low Dropout Regulator with Micropower Quiescent Current and Shutdown, 4.3 to 20 V Vin, Adjustable Vout, 8-pin SOP (MS8-8), 0 to 125 degC, Pb-Free; Manufacturer: Linear Technology; PartNumber: LT1521CMS8#PBF; Discrete Pass Element: no; Dropout Voltage(V): 0.5; Iout(mA): 300; Isupply(mA): 0.012; Number of Outputs: 1; Output Voltage: Adj; Shutdown Current(uA): 6; Vin Max(V): 20; Vin Min(V): 4.3; Vout Min(V): 3.8; DatasheetVersion: Rev. B; PackageVersion: Rev. G, 03/2012; PackageReference: MS8-8; PackageDescription: 8-Pin Plastic MSOP, Body 3 x 3 mm, Pitch 0.65 mm; Supplier 1: Digi-Key; Supplier Part Number 1: LT1521CMS8#PBF-ND; Supplier 2: Farnell; Supplier Part Number 2: 2252778; Supplier 3: Newark; Supplier Part Number 3: 57M4746; RoHS: TRUE; Vout Max(V): 20; Mounting Technology: Surface Mount; ComponentLink1Description: Manufacturer URL; ComponentLink1URL: http://www.linear.com/; ComponentLink2Description: Datasheet; ComponentLink2URL: http://cds.linear.com/docs/en/datasheet/1521335fb.pdf; ComponentLink3Description: Package Specification; ComponentLink3URL: http://cds.linear.com/docs/en/packaging/05081660_G_MS8.pdf
footprint LT-MS8-8_N (SOP, 8-Leads, Body 3x3mm, Pitch 0.65mm, IPC Medium Density)
footprint LT-MS8-8_L (SOP, 8-Leads, Body 3x3mm, Pitch 0.65mm, IPC High Density)
footprint LT-MS8-8_M (SOP, 8-Leads, Body 3x3mm, Pitch 0.65mm, IPC Low Density)
part A pins: 1 OUT (power) "The output pin supplies power to the load. A minimum output capacitor of 1.5uF is required to prevent oscillations, but larger values of output capacitor will be necessary to deal with larger load transients. See the (See Datasheet)", 2 ADJ (in) "For adjustable LT1521, the adjust pin is the input to the error amplifier. This pin is internally clamped to 6V and -0.6V (one VBE). It has a bias current of 50nA which flows into the pin. See Adjust Pin Bias Current vs (See Datasheet)", 4 GND (power), 5 ~{SHDN} (in) "The shutdown pin is used to put the device into shutdown. In shutdown the output of the device is turned off. This pin is active low. The device will be shut down if the shutdown pin is pulled low. The shutdown pin current (See Datasheet)", 8 IN (power) "Power is supplied to the device through the input pin. The input pin should be bypassed to ground if the device is more than six inches away from the main input filter capacitor. In general, the output impedance of battery (See Datasheet)"
part B pins: 3 NC, 6 NC, 7 NC

## LT1521CMS8-3
designator U?
300 mA Low Dropout Regulator with Micropower Quiescent Current and Shutdown, 4.3 to 20 V Vin, 3 V Vout, 8-pin SOP (MS8-8), 0 to 125 degC; Manufacturer: Linear Technology; PartNumber: LT1521CMS8-3; Discrete Pass Element: no; Dropout Voltage(V): 0.5; Iout(mA): 300; Isupply(mA): 0.012; Number of Outputs: 1; Output Voltage: 3 V; Shutdown Current(uA): 6; Vin Max(V): 20; Vin Min(V): 4.3; DatasheetVersion: Rev. B; PackageVersion: Rev. G, 03/2012; PackageReference: MS8-8; PackageDescription: 8-Pin Plastic MSOP, Body 3 x 3 mm, Pitch 0.65 mm; Supplier 1: Digi-Key; Supplier Part Number 1: LT1521CMS8-3-ND; RoHS: FALSE; Mounting Technology: Surface Mount; ComponentLink1Description: Manufacturer URL; ComponentLink1URL: http://www.linear.com/; ComponentLink2Description: Datasheet; ComponentLink2URL: http://cds.linear.com/docs/en/datasheet/1521335fb.pdf; ComponentLink3Description: Package Specification; ComponentLink3URL: http://cds.linear.com/docs/en/packaging/05081660_G_MS8.pdf
footprint LT-MS8-8_N (SOP, 8-Leads, Body 3x3mm, Pitch 0.65mm, IPC Medium Density)
footprint LT-MS8-8_L (SOP, 8-Leads, Body 3x3mm, Pitch 0.65mm, IPC High Density)
footprint LT-MS8-8_M (SOP, 8-Leads, Body 3x3mm, Pitch 0.65mm, IPC Low Density)
part A pins: 1 OUT (power) "The output pin supplies power to the load. A minimum output capacitor of 1.5uF is required to prevent oscillations, but larger values of output capacitor will be necessary to deal with larger load transients. See the (See Datasheet)", 2 SENSE (in) "For fixed voltage versions of the LT1521 (LT1521-3, LT1521-3.3, LT1521-5), the sense pin is the input to the error amplifier. Optimum regulation will be obtained at the point where the sense pin is connected to the output (See Datasheet)", 4 GND (power), 5 ~{SHDN} (in) "The shutdown pin is used to put the device into shutdown. In shutdown the output of the device is turned off. This pin is active low. The device will be shut down if the shutdown pin is pulled low. The shutdown pin current (See Datasheet)", 8 IN (power) "Power is supplied to the device through the input pin. The input pin should be bypassed to ground if the device is more than six inches away from the main input filter capacitor. In general, the output impedance of battery (See Datasheet)"
part B pins: 3 NC, 6 NC, 7 NC

## LT1521CMS8-3#PBF
designator U?
300 mA Low Dropout Regulator with Micropower Quiescent Current and Shutdown, 4.3 to 20 V Vin, 3 V Vout, 8-pin SOP (MS8-8), 0 to 125 degC, Pb-Free; Manufacturer: Linear Technology; PartNumber: LT1521CMS8-3#PBF; Discrete Pass Element: no; Dropout Voltage(V): 0.5; Iout(mA): 300; Isupply(mA): 0.012; Number of Outputs: 1; Output Voltage: 3 V; Shutdown Current(uA): 6; Vin Max(V): 20; Vin Min(V): 4.3; DatasheetVersion: Rev. B; PackageVersion: Rev. G, 03/2012; PackageReference: MS8-8; PackageDescription: 8-Pin Plastic MSOP, Body 3 x 3 mm, Pitch 0.65 mm; Supplier 1: Digi-Key; Supplier Part Number 1: LT1521CMS8-3#PBF-ND; RoHS: TRUE; Mounting Technology: Surface Mount; ComponentLink1Description: Manufacturer URL; ComponentLink1URL: http://www.linear.com/; ComponentLink2Description: Datasheet; ComponentLink2URL: http://cds.linear.com/docs/en/datasheet/1521335fb.pdf; ComponentLink3Description: Package Specification; ComponentLink3URL: http://cds.linear.com/docs/en/packaging/05081660_G_MS8.pdf
footprint LT-MS8-8_N (SOP, 8-Leads, Body 3x3mm, Pitch 0.65mm, IPC Medium Density)
footprint LT-MS8-8_L (SOP, 8-Leads, Body 3x3mm, Pitch 0.65mm, IPC High Density)
footprint LT-MS8-8_M (SOP, 8-Leads, Body 3x3mm, Pitch 0.65mm, IPC Low Density)
part A pins: 1 OUT (power) "The output pin supplies power to the load. A minimum output capacitor of 1.5uF is required to prevent oscillations, but larger values of output capacitor will be necessary to deal with larger load transients. See the (See Datasheet)", 2 SENSE (in) "For fixed voltage versions of the LT1521 (LT1521-3, LT1521-3.3, LT1521-5), the sense pin is the input to the error amplifier. Optimum regulation will be obtained at the point where the sense pin is connected to the output (See Datasheet)", 4 GND (power), 5 ~{SHDN} (in) "The shutdown pin is used to put the device into shutdown. In shutdown the output of the device is turned off. This pin is active low. The device will be shut down if the shutdown pin is pulled low. The shutdown pin current (See Datasheet)", 8 IN (power) "Power is supplied to the device through the input pin. The input pin should be bypassed to ground if the device is more than six inches away from the main input filter capacitor. In general, the output impedance of battery (See Datasheet)"
part B pins: 3 NC, 6 NC, 7 NC

## LT1521CMS8-3#TR
designator U?
300 mA Low Dropout Regulator with Micropower Quiescent Current and Shutdown, 4.3 to 20 V Vin, 3 V Vout, 8-pin SOP (MS8-8), 0 to 125 degC, Tape and Reel; Manufacturer: Linear Technology; PartNumber: LT1521CMS8-3#TR; Discrete Pass Element: no; Dropout Voltage(V): 0.5; Iout(mA): 300; Isupply(mA): 0.012; Number of Outputs: 1; Output Voltage: 3 V; Shutdown Current(uA): 6; Vin Max(V): 20; Vin Min(V): 4.3; DatasheetVersion: Rev. B; PackageVersion: Rev. G, 03/2012; PackageReference: MS8-8; PackageDescription: 8-Pin Plastic MSOP, Body 3 x 3 mm, Pitch 0.65 mm; Supplier 1: Digi-Key; Supplier Part Number 1: LT1521CMS8-3#TR-ND; Packing: Tape and Reel; RoHS: FALSE; Mounting Technology: Surface Mount; ComponentLink1Description: Manufacturer URL; ComponentLink1URL: http://www.linear.com/; ComponentLink2Description: Datasheet; ComponentLink2URL: http://cds.linear.com/docs/en/datasheet/1521335fb.pdf; ComponentLink3Description: Package Specification; ComponentLink3URL: http://cds.linear.com/docs/en/packaging/05081660_G_MS8.pdf
footprint LT-MS8-8_N (SOP, 8-Leads, Body 3x3mm, Pitch 0.65mm, IPC Medium Density)
footprint LT-MS8-8_L (SOP, 8-Leads, Body 3x3mm, Pitch 0.65mm, IPC High Density)
footprint LT-MS8-8_M (SOP, 8-Leads, Body 3x3mm, Pitch 0.65mm, IPC Low Density)
part A pins: 1 OUT (power) "The output pin supplies power to the load. A minimum output capacitor of 1.5uF is required to prevent oscillations, but larger values of output capacitor will be necessary to deal with larger load transients. See the (See Datasheet)", 2 SENSE (in) "For fixed voltage versions of the LT1521 (LT1521-3, LT1521-3.3, LT1521-5), the sense pin is the input to the error amplifier. Optimum regulation will be obtained at the point where the sense pin is connected to the output (See Datasheet)", 4 GND (power), 5 ~{SHDN} (in) "The shutdown pin is used to put the device into shutdown. In shutdown the output of the device is turned off. This pin is active low. The device will be shut down if the shutdown pin is pulled low. The shutdown pin current (See Datasheet)", 8 IN (power) "Power is supplied to the device through the input pin. The input pin should be bypassed to ground if the device is more than six inches away from the main input filter capacitor. In general, the output impedance of battery (See Datasheet)"
part B pins: 3 NC, 6 NC, 7 NC

## LT1521CMS8-3#TRPBF
designator U?
300 mA Low Dropout Regulator with Micropower Quiescent Current and Shutdown, 4.3 to 20 V Vin, 3 V Vout, 8-pin SOP (MS8-8), 0 to 125 degC, Pb-Free, Tape and Reel; Manufacturer: Linear Technology; PartNumber: LT1521CMS8-3#TRPBF; Discrete Pass Element: no; Dropout Voltage(V): 0.5; Iout(mA): 300; Isupply(mA): 0.012; Number of Outputs: 1; Output Voltage: 3 V; Shutdown Current(uA): 6; Vin Max(V): 20; Vin Min(V): 4.3; DatasheetVersion: Rev. B; PackageVersion: Rev. G, 03/2012; PackageReference: MS8-8; PackageDescription: 8-Pin Plastic MSOP, Body 3 x 3 mm, Pitch 0.65 mm; Supplier 1: Digi-Key; Supplier Part Number 1: LT1521CMS8-3#TRPBF-ND; Packing: Tape and Reel; RoHS: TRUE; Mounting Technology: Surface Mount; ComponentLink1Description: Manufacturer URL; ComponentLink1URL: http://www.linear.com/; ComponentLink2Description: Datasheet; ComponentLink2URL: http://cds.linear.com/docs/en/datasheet/1521335fb.pdf; ComponentLink3Description: Package Specification; ComponentLink3URL: http://cds.linear.com/docs/en/packaging/05081660_G_MS8.pdf
footprint LT-MS8-8_N (SOP, 8-Leads, Body 3x3mm, Pitch 0.65mm, IPC Medium Density)
footprint LT-MS8-8_L (SOP, 8-Leads, Body 3x3mm, Pitch 0.65mm, IPC High Density)
footprint LT-MS8-8_M (SOP, 8-Leads, Body 3x3mm, Pitch 0.65mm, IPC Low Density)
part A pins: 1 OUT (power) "The output pin supplies power to the load. A minimum output capacitor of 1.5uF is required to prevent oscillations, but larger values of output capacitor will be necessary to deal with larger load transients. See the (See Datasheet)", 2 SENSE (in) "For fixed voltage versions of the LT1521 (LT1521-3, LT1521-3.3, LT1521-5), the sense pin is the input to the error amplifier. Optimum regulation will be obtained at the point where the sense pin is connected to the output (See Datasheet)", 4 GND (power), 5 ~{SHDN} (in) "The shutdown pin is used to put the device into shutdown. In shutdown the output of the device is turned off. This pin is active low. The device will be shut down if the shutdown pin is pulled low. The shutdown pin current (See Datasheet)", 8 IN (power) "Power is supplied to the device through the input pin. The input pin should be bypassed to ground if the device is more than six inches away from the main input filter capacitor. In general, the output impedance of battery (See Datasheet)"
part B pins: 3 NC, 6 NC, 7 NC

## LT1521CMS8-3.3
designator U?
300 mA Low Dropout Regulator with Micropower Quiescent Current and Shutdown, 4.3 to 20 V Vin, 3.3 V Vout, 8-pin SOP (MS8-8), 0 to 125 degC; Manufacturer: Linear Technology; PartNumber: LT1521CMS8-3.3; Discrete Pass Element: no; Dropout Voltage(V): 0.5; Iout(mA): 300; Isupply(mA): 0.012; Number of Outputs: 1; Output Voltage: 3.3 V; Shutdown Current(uA): 6; Vin Max(V): 20; Vin Min(V): 4.3; DatasheetVersion: Rev. B; PackageVersion: Rev. G, 03/2012; PackageReference: MS8-8; PackageDescription: 8-Pin Plastic MSOP, Body 3 x 3 mm, Pitch 0.65 mm; Supplier 1: Digi-Key; Supplier Part Number 1: LT1521CMS8-3.3-ND; RoHS: FALSE; Mounting Technology: Surface Mount; ComponentLink1Description: Manufacturer URL; ComponentLink1URL: http://www.linear.com/; ComponentLink2Description: Datasheet; ComponentLink2URL: http://cds.linear.com/docs/en/datasheet/1521335fb.pdf; ComponentLink3Description: Package Specification; ComponentLink3URL: http://cds.linear.com/docs/en/packaging/05081660_G_MS8.pdf
footprint LT-MS8-8_N (SOP, 8-Leads, Body 3x3mm, Pitch 0.65mm, IPC Medium Density)
footprint LT-MS8-8_L (SOP, 8-Leads, Body 3x3mm, Pitch 0.65mm, IPC High Density)
footprint LT-MS8-8_M (SOP, 8-Leads, Body 3x3mm, Pitch 0.65mm, IPC Low Density)
pins: 1 OUT (power), 2 SENSE (in), 3 GND (power), 4 NC, 5 ~{SHDN} (in), 6 GND (power), 7 GND (power), 8 IN (power)

## LT1521CMS8-3.3#PBF
designator U?
300 mA Low Dropout Regulator with Micropower Quiescent Current and Shutdown, 4.3 to 20 V Vin, 3.3 V Vout, 8-pin SOP (MS8-8), 0 to 125 degC, Pb-Free; Manufacturer: Linear Technology; PartNumber: LT1521CMS8-3.3#PBF; Discrete Pass Element: no; Dropout Voltage(V): 0.5; Iout(mA): 300; Isupply(mA): 0.012; Number of Outputs: 1; Output Voltage: 3.3 V; Shutdown Current(uA): 6; Vin Max(V): 20; Vin Min(V): 4.3; DatasheetVersion: Rev. B; PackageVersion: Rev. G, 03/2012; PackageReference: MS8-8; PackageDescription: 8-Pin Plastic MSOP, Body 3 x 3 mm, Pitch 0.65 mm; Supplier 1: Digi-Key; Supplier Part Number 1: LT1521CMS8-3.3#PBF-ND; Supplier 2: Newark; Supplier Part Number 2: 57M4740; RoHS: TRUE; Mounting Technology: Surface Mount; ComponentLink1Description: Manufacturer URL; ComponentLink1URL: http://www.linear.com/; ComponentLink2Description: Datasheet; ComponentLink2URL: http://cds.linear.com/docs/en/datasheet/1521335fb.pdf; ComponentLink3Description: Package Specification; ComponentLink3URL: http://cds.linear.com/docs/en/packaging/05081660_G_MS8.pdf
footprint LT-MS8-8_N (SOP, 8-Leads, Body 3x3mm, Pitch 0.65mm, IPC Medium Density)
footprint LT-MS8-8_L (SOP, 8-Leads, Body 3x3mm, Pitch 0.65mm, IPC High Density)
footprint LT-MS8-8_M (SOP, 8-Leads, Body 3x3mm, Pitch 0.65mm, IPC Low Density)
pins: 1 OUT (power), 2 SENSE (in), 3 GND (power), 4 NC, 5 ~{SHDN} (in), 6 GND (power), 7 GND (power), 8 IN (power)

## LT1521CMS8-3.3#TR
designator U?
300 mA Low Dropout Regulator with Micropower Quiescent Current and Shutdown, 4.3 to 20 V Vin, 3.3 V Vout, 8-pin SOP (MS8-8), 0 to 125 degC, Tape and Reel; Manufacturer: Linear Technology; PartNumber: LT1521CMS8-3.3#TR; Discrete Pass Element: no; Dropout Voltage(V): 0.5; Iout(mA): 300; Isupply(mA): 0.012; Number of Outputs: 1; Output Voltage: 3.3 V; Shutdown Current(uA): 6; Vin Max(V): 20; Vin Min(V): 4.3; DatasheetVersion: Rev. B; PackageVersion: Rev. G, 03/2012; PackageReference: MS8-8; PackageDescription: 8-Pin Plastic MSOP, Body 3 x 3 mm, Pitch 0.65 mm; Supplier 1: Digi-Key; Supplier Part Number 1: LT1521CMS8-3.3#TR-ND; Packing: Tape and Reel; RoHS: FALSE; Mounting Technology: Surface Mount; ComponentLink1Description: Manufacturer URL; ComponentLink1URL: http://www.linear.com/; ComponentLink2Description: Datasheet; ComponentLink2URL: http://cds.linear.com/docs/en/datasheet/1521335fb.pdf; ComponentLink3Description: Package Specification; ComponentLink3URL: http://cds.linear.com/docs/en/packaging/05081660_G_MS8.pdf
footprint LT-MS8-8_N (SOP, 8-Leads, Body 3x3mm, Pitch 0.65mm, IPC Medium Density)
footprint LT-MS8-8_L (SOP, 8-Leads, Body 3x3mm, Pitch 0.65mm, IPC High Density)
footprint LT-MS8-8_M (SOP, 8-Leads, Body 3x3mm, Pitch 0.65mm, IPC Low Density)
pins: 1 OUT (power), 2 SENSE (in), 3 GND (power), 4 NC, 5 ~{SHDN} (in), 6 GND (power), 7 GND (power), 8 IN (power)

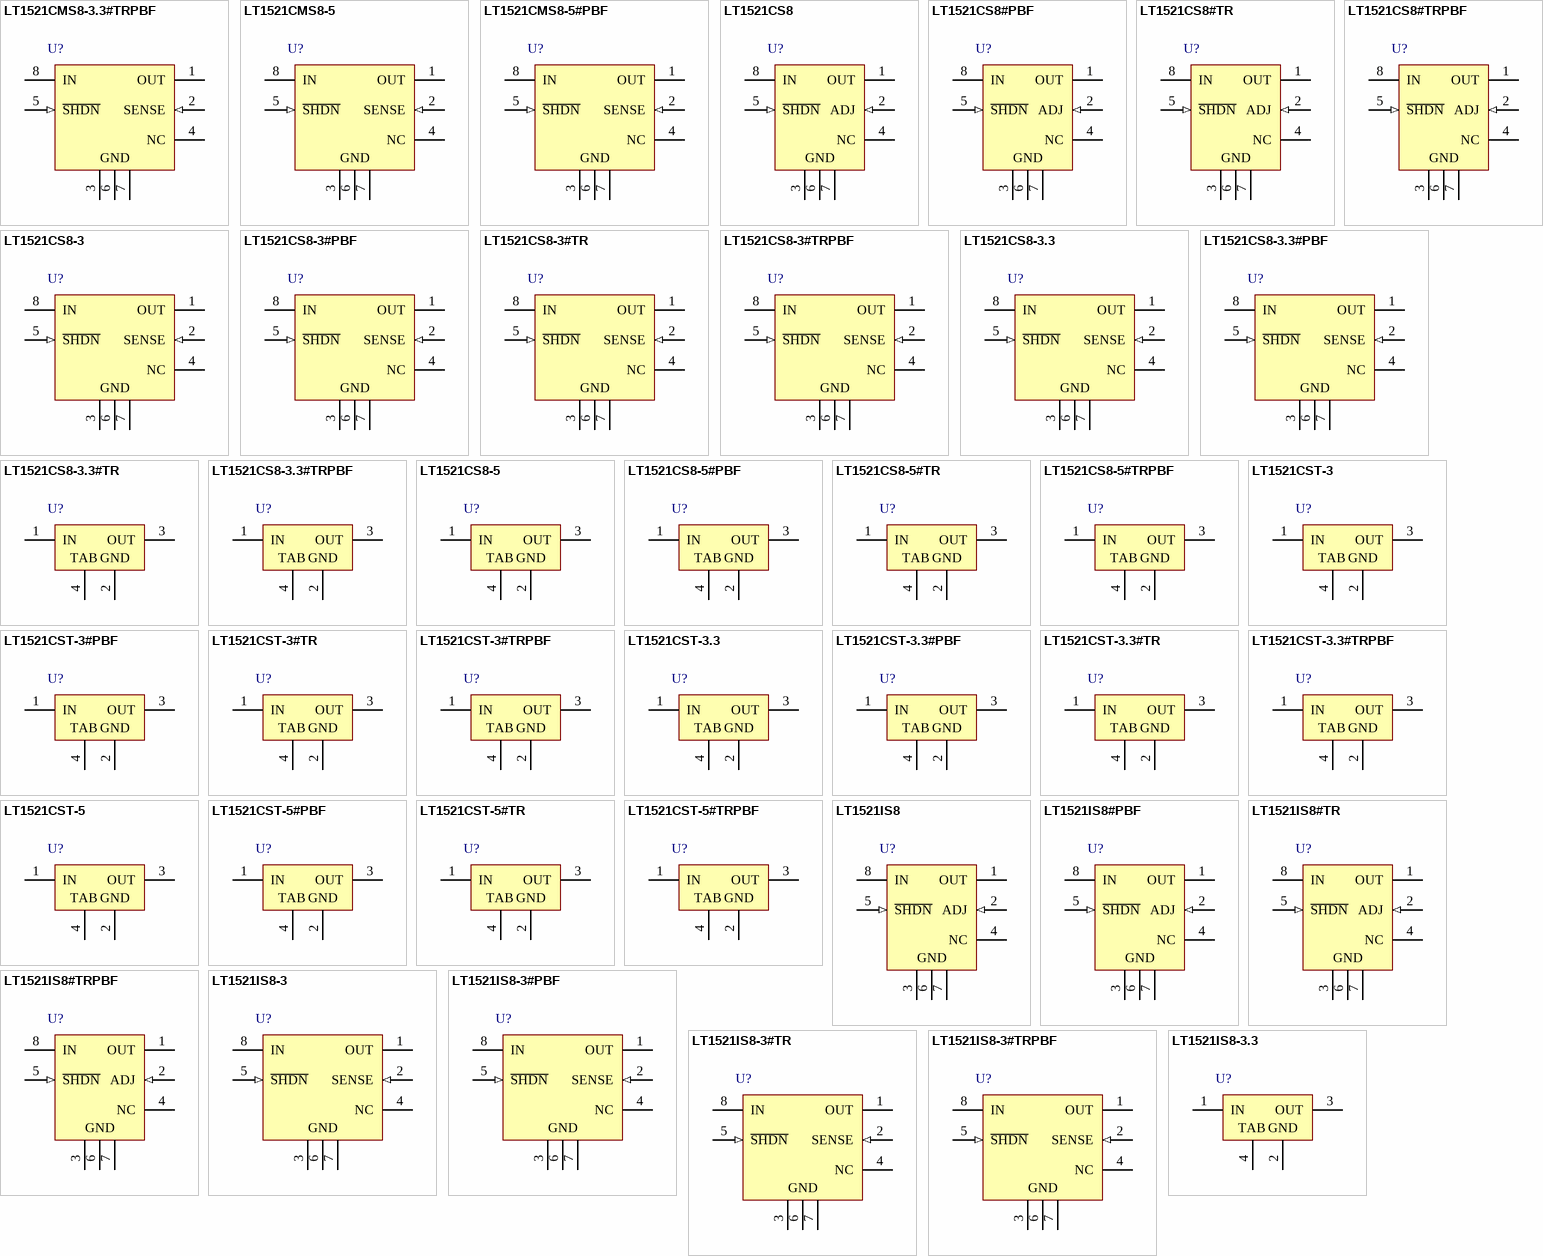
[diagram p14: symbols LT1521CMS8-3.3#TRPBF to LT1521IS8-3.3]

## LT1521CMS8-3.3#TRPBF
designator U?
300 mA Low Dropout Regulator with Micropower Quiescent Current and Shutdown, 4.3 to 20 V Vin, 3.3 V Vout, 8-pin SOP (MS8-8), 0 to 125 degC, Pb-Free, Tape and Reel; Manufacturer: Linear Technology; PartNumber: LT1521CMS8-3.3#TRPBF; Discrete Pass Element: no; Dropout Voltage(V): 0.5; Iout(mA): 300; Isupply(mA): 0.012; Number of Outputs: 1; Output Voltage: 3.3 V; Shutdown Current(uA): 6; Vin Max(V): 20; Vin Min(V): 4.3; DatasheetVersion: Rev. B; PackageVersion: Rev. G, 03/2012; PackageReference: MS8-8; PackageDescription: 8-Pin Plastic MSOP, Body 3 x 3 mm, Pitch 0.65 mm; Supplier 1: Digi-Key; Supplier Part Number 1: LT1521CMS8-3.3#TRPBF-ND; Packing: Tape and Reel; RoHS: TRUE; Mounting Technology: Surface Mount; ComponentLink1Description: Manufacturer URL; ComponentLink1URL: http://www.linear.com/; ComponentLink2Description: Datasheet; ComponentLink2URL: http://cds.linear.com/docs/en/datasheet/1521335fb.pdf; ComponentLink3Description: Package Specification; ComponentLink3URL: http://cds.linear.com/docs/en/packaging/05081660_G_MS8.pdf
footprint LT-MS8-8_N (SOP, 8-Leads, Body 3x3mm, Pitch 0.65mm, IPC Medium Density)
footprint LT-MS8-8_L (SOP, 8-Leads, Body 3x3mm, Pitch 0.65mm, IPC High Density)
footprint LT-MS8-8_M (SOP, 8-Leads, Body 3x3mm, Pitch 0.65mm, IPC Low Density)
pins: 1 OUT (power), 2 SENSE (in), 3 GND (power), 4 NC, 5 ~{SHDN} (in), 6 GND (power), 7 GND (power), 8 IN (power)